# Altium schematic symbol library jlcpcb_2025_04_resistors_basic.schlib: 182 symbols (part 3 of 3)
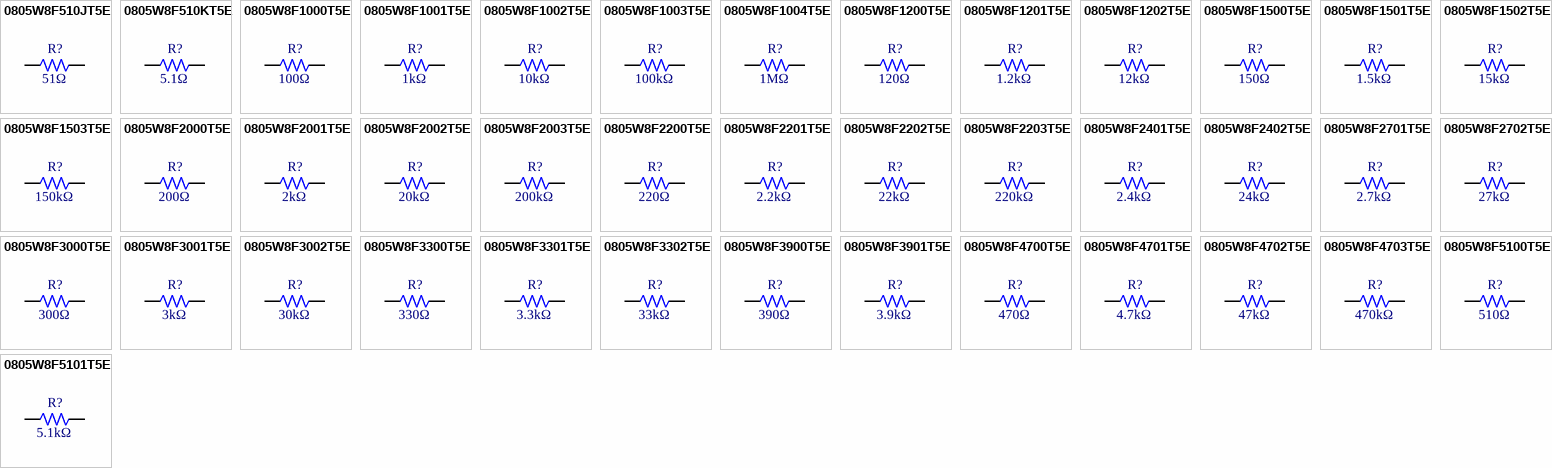
[diagram p6: symbols 0805W8F510JT5E to 0805W8F5101T5E]

## 0805W8F1002T5E
designator R?  Resistance: 10kΩ  (hidden comment: *)
Resistor, 10kΩ, ±1%, 125mW, 150V, ±100ppm/℃, -55℃~+155℃, SMD 0805; Manufacturer: Uniroyal; Manufacturer Part Number: 0805W8F1002T5E; Supplier 1: LCSC; Supplier Part Number 1: C17414; JLCPCB Part Number: C17414; Power Rating: 125mW; Category: Resistors; Package Size: 0805; JLCPCB Basic Part: Yes; Tolerance: ±1%; Voltage Rating: 150V; Temperature Coefficient: ±100ppm/℃; Temperature Rating: -55℃~+155℃; ComponentLink1Description: Datasheet; ComponentLink1URL: https://wmsc.lcsc.com/wmsc/upload/file/pdf/v2/lcsc/2206010216_UNI-ROYAL-Uniroyal-Elec-0805W8F1002T5E_C17414.pdf; ComponentLink2Description: JLCPCB Part URL; ComponentLink2URL: https://jlcpcb.com/partdetail/C17414
pins: 1, 2
1 alternate drawing of the same symbol

## 0805W8F1003T5E
designator R?  Resistance: 100kΩ  (hidden comment: *)
Resistor, 100kΩ, ±1%, 125mW, 150V, ±100ppm/℃, -55℃~+155℃, SMD 0805; Manufacturer: Uniroyal; Manufacturer Part Number: 0805W8F1003T5E; Supplier 1: LCSC; Supplier Part Number 1: C149504; JLCPCB Part Number: C149504; Power Rating: 125mW; Category: Resistors; Package Size: 0805; JLCPCB Basic Part: Yes; Tolerance: ±1%; Voltage Rating: 150V; Temperature Coefficient: ±100ppm/℃; Temperature Rating: -55℃~+155℃; ComponentLink1Description: Datasheet; ComponentLink1URL: https://wmsc.lcsc.com/wmsc/upload/file/pdf/v2/lcsc/2205312316_UNI-ROYAL-Uniroyal-Elec-0805W8F1003T5E_C149504.pdf; ComponentLink2Description: JLCPCB Part URL; ComponentLink2URL: https://jlcpcb.com/partdetail/C149504
pins: 1, 2
1 alternate drawing of the same symbol

## 0805W8F1004T5E
designator R?  Resistance: 1MΩ  (hidden comment: *)
Resistor, 1MΩ, ±1%, 125mW, 150V, ±100ppm/℃, -55℃~+155℃, SMD 0805; Manufacturer: Uniroyal; Manufacturer Part Number: 0805W8F1004T5E; Supplier 1: LCSC; Supplier Part Number 1: C17514; JLCPCB Part Number: C17514; Power Rating: 125mW; Category: Resistors; Package Size: 0805; JLCPCB Basic Part: Yes; Tolerance: ±1%; Voltage Rating: 150V; Temperature Coefficient: ±100ppm/℃; Temperature Rating: -55℃~+155℃; ComponentLink1Description: Datasheet; ComponentLink1URL: https://wmsc.lcsc.com/wmsc/upload/file/pdf/v2/lcsc/2206010200_UNI-ROYAL-Uniroyal-Elec-0805W8F1004T5E_C17514.pdf; ComponentLink2Description: JLCPCB Part URL; ComponentLink2URL: https://jlcpcb.com/partdetail/C17514
pins: 1, 2
1 alternate drawing of the same symbol

## 0805W8F1200T5E
designator R?  Resistance: 120Ω  (hidden comment: *)
Resistor, 120Ω, ±1%, 125mW, 150V, ±100ppm/℃, -55℃~+155℃, SMD 0805; Manufacturer: Uniroyal; Manufacturer Part Number: 0805W8F1200T5E; Supplier 1: LCSC; Supplier Part Number 1: C17437; JLCPCB Part Number: C17437; Power Rating: 125mW; Category: Resistors; Package Size: 0805; JLCPCB Basic Part: Yes; Tolerance: ±1%; Voltage Rating: 150V; Temperature Coefficient: ±100ppm/℃; Temperature Rating: -55℃~+155℃; ComponentLink1Description: Datasheet; ComponentLink1URL: https://wmsc.lcsc.com/wmsc/upload/file/pdf/v2/lcsc/2206010216_UNI-ROYAL-Uniroyal-Elec-0805W8F1200T5E_C17437.pdf; ComponentLink2Description: JLCPCB Part URL; ComponentLink2URL: https://jlcpcb.com/partdetail/C17437
pins: 1, 2
1 alternate drawing of the same symbol

## 0805W8F1201T5E
designator R?  Resistance: 1.2kΩ  (hidden comment: *)
Resistor, 1.2kΩ, ±1%, 125mW, 150V, ±100ppm/℃, -55℃~+155℃, SMD 0805; Manufacturer: Uniroyal; Manufacturer Part Number: 0805W8F1201T5E; Supplier 1: LCSC; Supplier Part Number 1: C17379; JLCPCB Part Number: C17379; Power Rating: 125mW; Category: Resistors; Package Size: 0805; JLCPCB Basic Part: Yes; Tolerance: ±1%; Voltage Rating: 150V; Temperature Coefficient: ±100ppm/℃; Temperature Rating: -55℃~+155℃; ComponentLink1Description: Datasheet; ComponentLink1URL: https://wmsc.lcsc.com/wmsc/upload/file/pdf/v2/lcsc/2206010216_UNI-ROYAL-Uniroyal-Elec-0805W8F1201T5E_C17379.pdf; ComponentLink2Description: JLCPCB Part URL; ComponentLink2URL: https://jlcpcb.com/partdetail/C17379
pins: 1, 2
1 alternate drawing of the same symbol

## 0805W8F1202T5E
designator R?  Resistance: 12kΩ  (hidden comment: *)
Resistor, 12kΩ, ±1%, 125mW, 150V, ±100ppm/℃, -55℃~+155℃, SMD 0805; Manufacturer: Uniroyal; Manufacturer Part Number: 0805W8F1202T5E; Supplier 1: LCSC; Supplier Part Number 1: C17444; JLCPCB Part Number: C17444; Power Rating: 125mW; Category: Resistors; Package Size: 0805; JLCPCB Basic Part: Yes; Tolerance: ±1%; Voltage Rating: 150V; Temperature Coefficient: ±100ppm/℃; Temperature Rating: -55℃~+155℃; ComponentLink1Description: Datasheet; ComponentLink1URL: https://wmsc.lcsc.com/wmsc/upload/file/pdf/v2/lcsc/2206010216_UNI-ROYAL-Uniroyal-Elec-0805W8F1202T5E_C17444.pdf; ComponentLink2Description: JLCPCB Part URL; ComponentLink2URL: https://jlcpcb.com/partdetail/C17444
pins: 1, 2
1 alternate drawing of the same symbol

## 0805W8F1500T5E
designator R?  Resistance: 150Ω  (hidden comment: *)
Resistor, 150Ω, ±1%, 125mW, 150V, ±100ppm/℃, -55℃~+155℃, SMD 0805; Manufacturer: Uniroyal; Manufacturer Part Number: 0805W8F1500T5E; Supplier 1: LCSC; Supplier Part Number 1: C17471; JLCPCB Part Number: C17471; Power Rating: 125mW; Category: Resistors; Package Size: 0805; JLCPCB Basic Part: Yes; Tolerance: ±1%; Voltage Rating: 150V; Temperature Coefficient: ±100ppm/℃; Temperature Rating: -55℃~+155℃; ComponentLink1Description: Datasheet; ComponentLink1URL: https://wmsc.lcsc.com/wmsc/upload/file/pdf/v2/lcsc/2206010216_UNI-ROYAL-Uniroyal-Elec-0805W8F1500T5E_C17471.pdf; ComponentLink2Description: JLCPCB Part URL; ComponentLink2URL: https://jlcpcb.com/partdetail/C17471
pins: 1, 2
1 alternate drawing of the same symbol

## 0805W8F1501T5E
designator R?  Resistance: 1.5kΩ  (hidden comment: *)
Resistor, 1.5kΩ, ±1%, 125mW, 150V, ±100ppm/℃, -55℃~+155℃, SMD 0805; Manufacturer: Uniroyal; Manufacturer Part Number: 0805W8F1501T5E; Supplier 1: LCSC; Supplier Part Number 1: C4310; JLCPCB Part Number: C4310; Power Rating: 125mW; Category: Resistors; Package Size: 0805; JLCPCB Basic Part: Yes; Tolerance: ±1%; Voltage Rating: 150V; Temperature Coefficient: ±100ppm/℃; Temperature Rating: -55℃~+155℃; ComponentLink1Description: Datasheet; ComponentLink1URL: https://wmsc.lcsc.com/wmsc/upload/file/pdf/v2/lcsc/2206010216_UNI-ROYAL-Uniroyal-Elec-0805W8F1501T5E_C4310.pdf; ComponentLink2Description: JLCPCB Part URL; ComponentLink2URL: https://jlcpcb.com/partdetail/C4310
pins: 1, 2
1 alternate drawing of the same symbol

## 0805W8F1502T5E
designator R?  Resistance: 15kΩ  (hidden comment: *)
Resistor, 15kΩ, ±1%, 125mW, 150V, ±100ppm/℃, -55℃~+155℃, SMD 0805; Manufacturer: Uniroyal; Manufacturer Part Number: 0805W8F1502T5E; Supplier 1: LCSC; Supplier Part Number 1: C17475; JLCPCB Part Number: C17475; Power Rating: 125mW; Category: Resistors; Package Size: 0805; JLCPCB Basic Part: Yes; Tolerance: ±1%; Voltage Rating: 150V; Temperature Coefficient: ±100ppm/℃; Temperature Rating: -55℃~+155℃; ComponentLink1Description: Datasheet; ComponentLink1URL: https://wmsc.lcsc.com/wmsc/upload/file/pdf/v2/lcsc/2206010216_UNI-ROYAL-Uniroyal-Elec-0805W8F1502T5E_C17475.pdf; ComponentLink2Description: JLCPCB Part URL; ComponentLink2URL: https://jlcpcb.com/partdetail/C17475
pins: 1, 2
1 alternate drawing of the same symbol

## 0805W8F1503T5E
designator R?  Resistance: 150kΩ  (hidden comment: *)
Resistor, 150kΩ, ±1%, 125mW, 150V, ±100ppm/℃, -55℃~+155℃, SMD 0805; Manufacturer: Uniroyal; Manufacturer Part Number: 0805W8F1503T5E; Supplier 1: LCSC; Supplier Part Number 1: C17470; JLCPCB Part Number: C17470; Power Rating: 125mW; Category: Resistors; Package Size: 0805; JLCPCB Basic Part: Yes; Tolerance: ±1%; Voltage Rating: 150V; Temperature Coefficient: ±100ppm/℃; Temperature Rating: -55℃~+155℃; ComponentLink1Description: Datasheet; ComponentLink1URL: https://wmsc.lcsc.com/wmsc/upload/file/pdf/v2/lcsc/2206010216_UNI-ROYAL-Uniroyal-Elec-0805W8F1503T5E_C17470.pdf; ComponentLink2Description: JLCPCB Part URL; ComponentLink2URL: https://jlcpcb.com/partdetail/C17470
pins: 1, 2
1 alternate drawing of the same symbol

## 0805W8F2000T5E
designator R?  Resistance: 200Ω  (hidden comment: *)
Resistor, 200Ω, ±1%, 125mW, 150V, ±100ppm/℃, -55℃~+155℃, SMD 0805; Manufacturer: Uniroyal; Manufacturer Part Number: 0805W8F2000T5E; Supplier 1: LCSC; Supplier Part Number 1: C17540; JLCPCB Part Number: C17540; Power Rating: 125mW; Category: Resistors; Package Size: 0805; JLCPCB Basic Part: Yes; Tolerance: ±1%; Voltage Rating: 150V; Temperature Coefficient: ±100ppm/℃; Temperature Rating: -55℃~+155℃; ComponentLink1Description: Datasheet; ComponentLink1URL: https://wmsc.lcsc.com/wmsc/upload/file/pdf/v2/lcsc/2206010200_UNI-ROYAL-Uniroyal-Elec-0805W8F2000T5E_C17540.pdf; ComponentLink2Description: JLCPCB Part URL; ComponentLink2URL: https://jlcpcb.com/partdetail/C17540
pins: 1, 2
1 alternate drawing of the same symbol

## 0805W8F2001T5E
designator R?  Resistance: 2kΩ  (hidden comment: *)
Resistor, 2kΩ, ±1%, 125mW, 150V, ±100ppm/℃, -55℃~+155℃, SMD 0805; Manufacturer: Uniroyal; Manufacturer Part Number: 0805W8F2001T5E; Supplier 1: LCSC; Supplier Part Number 1: C17604; JLCPCB Part Number: C17604; Power Rating: 125mW; Category: Resistors; Package Size: 0805; JLCPCB Basic Part: Yes; Tolerance: ±1%; Voltage Rating: 150V; Temperature Coefficient: ±100ppm/℃; Temperature Rating: -55℃~+155℃; ComponentLink1Description: Datasheet; ComponentLink1URL: https://wmsc.lcsc.com/wmsc/upload/file/pdf/v2/lcsc/2206010200_UNI-ROYAL-Uniroyal-Elec-0805W8F2001T5E_C17604.pdf; ComponentLink2Description: JLCPCB Part URL; ComponentLink2URL: https://jlcpcb.com/partdetail/C17604
pins: 1, 2
1 alternate drawing of the same symbol

## 0805W8F2002T5E
designator R?  Resistance: 20kΩ  (hidden comment: *)
Resistor, 20kΩ, ±1%, 125mW, 150V, ±100ppm/℃, -55℃~+155℃, SMD 0805; Manufacturer: Uniroyal; Manufacturer Part Number: 0805W8F2002T5E; Supplier 1: LCSC; Supplier Part Number 1: C4328; JLCPCB Part Number: C4328; Power Rating: 125mW; Category: Resistors; Package Size: 0805; JLCPCB Basic Part: Yes; Tolerance: ±1%; Voltage Rating: 150V; Temperature Coefficient: ±100ppm/℃; Temperature Rating: -55℃~+155℃; ComponentLink1Description: Datasheet; ComponentLink1URL: https://wmsc.lcsc.com/wmsc/upload/file/pdf/v2/lcsc/2206010216_UNI-ROYAL-Uniroyal-Elec-0805W8F2002T5E_C4328.pdf; ComponentLink2Description: JLCPCB Part URL; ComponentLink2URL: https://jlcpcb.com/partdetail/C4328
pins: 1, 2
1 alternate drawing of the same symbol

## 0805W8F2003T5E
designator R?  Resistance: 200kΩ  (hidden comment: *)
Resistor, 200kΩ, ±1%, 125mW, 150V, ±100ppm/℃, -55℃~+155℃, SMD 0805; Manufacturer: Uniroyal; Manufacturer Part Number: 0805W8F2003T5E; Supplier 1: LCSC; Supplier Part Number 1: C17539; JLCPCB Part Number: C17539; Power Rating: 125mW; Category: Resistors; Package Size: 0805; JLCPCB Basic Part: Yes; Tolerance: ±1%; Voltage Rating: 150V; Temperature Coefficient: ±100ppm/℃; Temperature Rating: -55℃~+155℃; ComponentLink1Description: Datasheet; ComponentLink1URL: https://wmsc.lcsc.com/wmsc/upload/file/pdf/v2/lcsc/2206010200_UNI-ROYAL-Uniroyal-Elec-0805W8F2003T5E_C17539.pdf; ComponentLink2Description: JLCPCB Part URL; ComponentLink2URL: https://jlcpcb.com/partdetail/C17539
pins: 1, 2
1 alternate drawing of the same symbol

## 0805W8F2200T5E
designator R?  Resistance: 220Ω  (hidden comment: *)
Resistor, 220Ω, ±1%, 125mW, 150V, ±100ppm/℃, -55℃~+155℃, SMD 0805; Manufacturer: Uniroyal; Manufacturer Part Number: 0805W8F2200T5E; Supplier 1: LCSC; Supplier Part Number 1: C17557; JLCPCB Part Number: C17557; Power Rating: 125mW; Category: Resistors; Package Size: 0805; JLCPCB Basic Part: Yes; Tolerance: ±1%; Voltage Rating: 150V; Temperature Coefficient: ±100ppm/℃; Temperature Rating: -55℃~+155℃; ComponentLink1Description: Datasheet; ComponentLink1URL: https://wmsc.lcsc.com/wmsc/upload/file/pdf/v2/lcsc/2206010200_UNI-ROYAL-Uniroyal-Elec-0805W8F2200T5E_C17557.pdf; ComponentLink2Description: JLCPCB Part URL; ComponentLink2URL: https://jlcpcb.com/partdetail/C17557
pins: 1, 2
1 alternate drawing of the same symbol

## 0805W8F2201T5E
designator R?  Resistance: 2.2kΩ  (hidden comment: *)
Resistor, 2.2kΩ, ±1%, 125mW, 150V, ±100ppm/℃, -55℃~+155℃, SMD 0805; Manufacturer: Uniroyal; Manufacturer Part Number: 0805W8F2201T5E; Supplier 1: LCSC; Supplier Part Number 1: C17520; JLCPCB Part Number: C17520; Power Rating: 125mW; Category: Resistors; Package Size: 0805; JLCPCB Basic Part: Yes; Tolerance: ±1%; Voltage Rating: 150V; Temperature Coefficient: ±100ppm/℃; Temperature Rating: -55℃~+155℃; ComponentLink1Description: Datasheet; ComponentLink1URL: https://wmsc.lcsc.com/wmsc/upload/file/pdf/v2/lcsc/2206010200_UNI-ROYAL-Uniroyal-Elec-0805W8F2201T5E_C17520.pdf; ComponentLink2Description: JLCPCB Part URL; ComponentLink2URL: https://jlcpcb.com/partdetail/C17520
pins: 1, 2
1 alternate drawing of the same symbol

## 0805W8F2202T5E
designator R?  Resistance: 22kΩ  (hidden comment: *)
Resistor, 22kΩ, ±1%, 125mW, 150V, ±100ppm/℃, -55℃~+155℃, SMD 0805; Manufacturer: Uniroyal; Manufacturer Part Number: 0805W8F2202T5E; Supplier 1: LCSC; Supplier Part Number 1: C17560; JLCPCB Part Number: C17560; Power Rating: 125mW; Category: Resistors; Package Size: 0805; JLCPCB Basic Part: Yes; Tolerance: ±1%; Voltage Rating: 150V; Temperature Coefficient: ±100ppm/℃; Temperature Rating: -55℃~+155℃; ComponentLink1Description: Datasheet; ComponentLink1URL: https://wmsc.lcsc.com/wmsc/upload/file/pdf/v2/lcsc/2206010200_UNI-ROYAL-Uniroyal-Elec-0805W8F2202T5E_C17560.pdf; ComponentLink2Description: JLCPCB Part URL; ComponentLink2URL: https://jlcpcb.com/partdetail/C17560
pins: 1, 2
1 alternate drawing of the same symbol

## 0805W8F2203T5E
designator R?  Resistance: 220kΩ  (hidden comment: *)
Resistor, 220kΩ, ±1%, 125mW, 150V, ±100ppm/℃, -55℃~+155℃, SMD 0805; Manufacturer: Uniroyal; Manufacturer Part Number: 0805W8F2203T5E; Supplier 1: LCSC; Supplier Part Number 1: C17556; JLCPCB Part Number: C17556; Power Rating: 125mW; Category: Resistors; Package Size: 0805; JLCPCB Basic Part: Yes; Tolerance: ±1%; Voltage Rating: 150V; Temperature Coefficient: ±100ppm/℃; Temperature Rating: -55℃~+155℃; ComponentLink1Description: Datasheet; ComponentLink1URL: https://wmsc.lcsc.com/wmsc/upload/file/pdf/v2/lcsc/2206010200_UNI-ROYAL-Uniroyal-Elec-0805W8F2203T5E_C17556.pdf; ComponentLink2Description: JLCPCB Part URL; ComponentLink2URL: https://jlcpcb.com/partdetail/C17556
pins: 1, 2
1 alternate drawing of the same symbol

## 0805W8F2401T5E
designator R?  Resistance: 2.4kΩ  (hidden comment: *)
Resistor, 2.4kΩ, ±1%, 125mW, 150V, ±100ppm/℃, -55℃~+155℃, SMD 0805; Manufacturer: Uniroyal; Manufacturer Part Number: 0805W8F2401T5E; Supplier 1: LCSC; Supplier Part Number 1: C17526; JLCPCB Part Number: C17526; Power Rating: 125mW; Category: Resistors; Package Size: 0805; JLCPCB Basic Part: Yes; Tolerance: ±1%; Voltage Rating: 150V; Temperature Coefficient: ±100ppm/℃; Temperature Rating: -55℃~+155℃; ComponentLink1Description: Datasheet; ComponentLink1URL: https://wmsc.lcsc.com/wmsc/upload/file/pdf/v2/lcsc/2206010200_UNI-ROYAL-Uniroyal-Elec-0805W8F2401T5E_C17526.pdf; ComponentLink2Description: JLCPCB Part URL; ComponentLink2URL: https://jlcpcb.com/partdetail/C17526
pins: 1, 2
1 alternate drawing of the same symbol

## 0805W8F2402T5E
designator R?  Resistance: 24kΩ  (hidden comment: *)
Resistor, 24kΩ, ±1%, 125mW, 150V, ±100ppm/℃, -55℃~+155℃, SMD 0805; Manufacturer: Uniroyal; Manufacturer Part Number: 0805W8F2402T5E; Supplier 1: LCSC; Supplier Part Number 1: C17575; JLCPCB Part Number: C17575; Power Rating: 125mW; Category: Resistors; Package Size: 0805; JLCPCB Basic Part: Yes; Tolerance: ±1%; Voltage Rating: 150V; Temperature Coefficient: ±100ppm/℃; Temperature Rating: -55℃~+155℃; ComponentLink1Description: Datasheet; ComponentLink1URL: https://wmsc.lcsc.com/wmsc/upload/file/pdf/v2/lcsc/2206010200_UNI-ROYAL-Uniroyal-Elec-0805W8F2402T5E_C17575.pdf; ComponentLink2Description: JLCPCB Part URL; ComponentLink2URL: https://jlcpcb.com/partdetail/C17575
pins: 1, 2
1 alternate drawing of the same symbol

## 0805W8F2701T5E
designator R?  Resistance: 2.7kΩ  (hidden comment: *)
Resistor, 2.7kΩ, ±1%, 125mW, 150V, ±100ppm/℃, -55℃~+155℃, SMD 0805; Manufacturer: Uniroyal; Manufacturer Part Number: 0805W8F2701T5E; Supplier 1: LCSC; Supplier Part Number 1: C17530; JLCPCB Part Number: C17530; Power Rating: 125mW; Category: Resistors; Package Size: 0805; JLCPCB Basic Part: Yes; Tolerance: ±1%; Voltage Rating: 150V; Temperature Coefficient: ±100ppm/℃; Temperature Rating: -55℃~+155℃; ComponentLink1Description: Datasheet; ComponentLink1URL: https://wmsc.lcsc.com/wmsc/upload/file/pdf/v2/lcsc/2206010200_UNI-ROYAL-Uniroyal-Elec-0805W8F2701T5E_C17530.pdf; ComponentLink2Description: JLCPCB Part URL; ComponentLink2URL: https://jlcpcb.com/partdetail/C17530
pins: 1, 2
1 alternate drawing of the same symbol

## 0805W8F2702T5E
designator R?  Resistance: 27kΩ  (hidden comment: *)
Resistor, 27kΩ, ±1%, 125mW, 150V, ±100ppm/℃, -55℃~+155℃, SMD 0805; Manufacturer: Uniroyal; Manufacturer Part Number: 0805W8F2702T5E; Supplier 1: LCSC; Supplier Part Number 1: C17593; JLCPCB Part Number: C17593; Power Rating: 125mW; Category: Resistors; Package Size: 0805; JLCPCB Basic Part: Yes; Tolerance: ±1%; Voltage Rating: 150V; Temperature Coefficient: ±100ppm/℃; Temperature Rating: -55℃~+155℃; ComponentLink1Description: Datasheet; ComponentLink1URL: https://wmsc.lcsc.com/wmsc/upload/file/pdf/v2/lcsc/2206010200_UNI-ROYAL-Uniroyal-Elec-0805W8F2702T5E_C17593.pdf; ComponentLink2Description: JLCPCB Part URL; ComponentLink2URL: https://jlcpcb.com/partdetail/C17593
pins: 1, 2
1 alternate drawing of the same symbol

## 0805W8F3000T5E
designator R?  Resistance: 300Ω  (hidden comment: *)
Resistor, 300Ω, ±1%, 125mW, 150V, ±100ppm/℃, -55℃~+155℃, SMD 0805; Manufacturer: Uniroyal; Manufacturer Part Number: 0805W8F3000T5E; Supplier 1: LCSC; Supplier Part Number 1: C17617; JLCPCB Part Number: C17617; Power Rating: 125mW; Category: Resistors; Package Size: 0805; JLCPCB Basic Part: Yes; Tolerance: ±1%; Voltage Rating: 150V; Temperature Coefficient: ±100ppm/℃; Temperature Rating: -55℃~+155℃; ComponentLink1Description: Datasheet; ComponentLink1URL: https://wmsc.lcsc.com/wmsc/upload/file/pdf/v2/lcsc/2206010200_UNI-ROYAL-Uniroyal-Elec-0805W8F3000T5E_C17617.pdf; ComponentLink2Description: JLCPCB Part URL; ComponentLink2URL: https://jlcpcb.com/partdetail/C17617
pins: 1, 2
1 alternate drawing of the same symbol

## 0805W8F3001T5E
designator R?  Resistance: 3kΩ  (hidden comment: *)
Resistor, 3kΩ, ±1%, 125mW, 150V, ±100ppm/℃, -55℃~+155℃, SMD 0805; Manufacturer: Uniroyal; Manufacturer Part Number: 0805W8F3001T5E; Supplier 1: LCSC; Supplier Part Number 1: C17661; JLCPCB Part Number: C17661; Power Rating: 125mW; Category: Resistors; Package Size: 0805; JLCPCB Basic Part: Yes; Tolerance: ±1%; Voltage Rating: 150V; Temperature Coefficient: ±100ppm/℃; Temperature Rating: -55℃~+155℃; ComponentLink1Description: Datasheet; ComponentLink1URL: https://wmsc.lcsc.com/wmsc/upload/file/pdf/v2/lcsc/2206010200_UNI-ROYAL-Uniroyal-Elec-0805W8F3001T5E_C17661.pdf; ComponentLink2Description: JLCPCB Part URL; ComponentLink2URL: https://jlcpcb.com/partdetail/C17661
pins: 1, 2
1 alternate drawing of the same symbol

## 0805W8F3002T5E
designator R?  Resistance: 30kΩ  (hidden comment: *)
Resistor, 30kΩ, ±1%, 125mW, 150V, ±100ppm/℃, -55℃~+155℃, SMD 0805; Manufacturer: Uniroyal; Manufacturer Part Number: 0805W8F3002T5E; Supplier 1: LCSC; Supplier Part Number 1: C17621; JLCPCB Part Number: C17621; Power Rating: 125mW; Category: Resistors; Package Size: 0805; JLCPCB Basic Part: Yes; Tolerance: ±1%; Voltage Rating: 150V; Temperature Coefficient: ±100ppm/℃; Temperature Rating: -55℃~+155℃; ComponentLink1Description: Datasheet; ComponentLink1URL: https://wmsc.lcsc.com/wmsc/upload/file/pdf/v2/lcsc/2205311830_UNI-ROYAL-Uniroyal-Elec-0805W8F3002T5E_C17621.pdf; ComponentLink2Description: JLCPCB Part URL; ComponentLink2URL: https://jlcpcb.com/partdetail/C17621
pins: 1, 2
1 alternate drawing of the same symbol

## 0805W8F3300T5E
designator R?  Resistance: 330Ω  (hidden comment: *)
Resistor, 330Ω, ±1%, 125mW, 150V, ±100ppm/℃, -55℃~+155℃, SMD 0805; Manufacturer: Uniroyal; Manufacturer Part Number: 0805W8F3300T5E; Supplier 1: LCSC; Supplier Part Number 1: C17630; JLCPCB Part Number: C17630; Power Rating: 125mW; Category: Resistors; Package Size: 0805; JLCPCB Basic Part: Yes; Tolerance: ±1%; Voltage Rating: 150V; Temperature Coefficient: ±100ppm/℃; Temperature Rating: -55℃~+155℃; ComponentLink1Description: Datasheet; ComponentLink1URL: https://wmsc.lcsc.com/wmsc/upload/file/pdf/v2/lcsc/2205311830_UNI-ROYAL-Uniroyal-Elec-0805W8F3300T5E_C17630.pdf; ComponentLink2Description: JLCPCB Part URL; ComponentLink2URL: https://jlcpcb.com/partdetail/C17630
pins: 1, 2
1 alternate drawing of the same symbol

## 0805W8F3301T5E
designator R?  Resistance: 3.3kΩ  (hidden comment: *)
Resistor, 3.3kΩ, ±1%, 125mW, 150V, ±100ppm/℃, -55℃~+155℃, SMD 0805; Manufacturer: Uniroyal; Manufacturer Part Number: 0805W8F3301T5E; Supplier 1: LCSC; Supplier Part Number 1: C26010; JLCPCB Part Number: C26010; Power Rating: 125mW; Category: Resistors; Package Size: 0805; JLCPCB Basic Part: Yes; Tolerance: ±1%; Voltage Rating: 150V; Temperature Coefficient: ±100ppm/℃; Temperature Rating: -55℃~+155℃; ComponentLink1Description: Datasheet; ComponentLink1URL: https://wmsc.lcsc.com/wmsc/upload/file/pdf/v2/lcsc/2206010045_UNI-ROYAL-Uniroyal-Elec-0805W8F3301T5E_C26010.pdf; ComponentLink2Description: JLCPCB Part URL; ComponentLink2URL: https://jlcpcb.com/partdetail/C26010
pins: 1, 2
1 alternate drawing of the same symbol

## 0805W8F3302T5E
designator R?  Resistance: 33kΩ  (hidden comment: *)
Resistor, 33kΩ, ±1%, 125mW, 150V, ±100ppm/℃, -55℃~+155℃, SMD 0805; Manufacturer: Uniroyal; Manufacturer Part Number: 0805W8F3302T5E; Supplier 1: LCSC; Supplier Part Number 1: C17633; JLCPCB Part Number: C17633; Power Rating: 125mW; Category: Resistors; Package Size: 0805; JLCPCB Basic Part: Yes; Tolerance: ±1%; Voltage Rating: 150V; Temperature Coefficient: ±100ppm/℃; Temperature Rating: -55℃~+155℃; ComponentLink1Description: Datasheet; ComponentLink1URL: https://wmsc.lcsc.com/wmsc/upload/file/pdf/v2/lcsc/2205311830_UNI-ROYAL-Uniroyal-Elec-0805W8F3302T5E_C17633.pdf; ComponentLink2Description: JLCPCB Part URL; ComponentLink2URL: https://jlcpcb.com/partdetail/C17633
pins: 1, 2
1 alternate drawing of the same symbol

## 0805W8F3900T5E
designator R?  Resistance: 390Ω  (hidden comment: *)
Resistor, 390Ω, ±1%, 125mW, 150V, ±100ppm/℃, -55℃~+155℃, SMD 0805; Manufacturer: Uniroyal; Manufacturer Part Number: 0805W8F3900T5E; Supplier 1: LCSC; Supplier Part Number 1: C17655; JLCPCB Part Number: C17655; Power Rating: 125mW; Category: Resistors; Package Size: 0805; JLCPCB Basic Part: Yes; Tolerance: ±1%; Voltage Rating: 150V; Temperature Coefficient: ±100ppm/℃; Temperature Rating: -55℃~+155℃; ComponentLink1Description: Datasheet; ComponentLink1URL: https://wmsc.lcsc.com/wmsc/upload/file/pdf/v2/lcsc/2206010200_UNI-ROYAL-Uniroyal-Elec-0805W8F3900T5E_C17655.pdf; ComponentLink2Description: JLCPCB Part URL; ComponentLink2URL: https://jlcpcb.com/partdetail/C17655
pins: 1, 2
1 alternate drawing of the same symbol

## 0805W8F3901T5E
designator R?  Resistance: 3.9kΩ  (hidden comment: *)
Resistor, 3.9kΩ, ±1%, 125mW, 150V, ±100ppm/℃, -55℃~+155℃, SMD 0805; Manufacturer: Uniroyal; Manufacturer Part Number: 0805W8F3901T5E; Supplier 1: LCSC; Supplier Part Number 1: C17614; JLCPCB Part Number: C17614; Power Rating: 125mW; Category: Resistors; Package Size: 0805; JLCPCB Basic Part: Yes; Tolerance: ±1%; Voltage Rating: 150V; Temperature Coefficient: ±100ppm/℃; Temperature Rating: -55℃~+155℃; ComponentLink1Description: Datasheet; ComponentLink1URL: https://wmsc.lcsc.com/wmsc/upload/file/pdf/v2/lcsc/2206010200_UNI-ROYAL-Uniroyal-Elec-0805W8F3901T5E_C17614.pdf; ComponentLink2Description: JLCPCB Part URL; ComponentLink2URL: https://jlcpcb.com/partdetail/C17614
pins: 1, 2
1 alternate drawing of the same symbol

## 0805W8F4700T5E
designator R?  Resistance: 470Ω  (hidden comment: *)
Resistor, 470Ω, ±1%, 125mW, 150V, ±100ppm/℃, -55℃~+155℃, SMD 0805; Manufacturer: Uniroyal; Manufacturer Part Number: 0805W8F4700T5E; Supplier 1: LCSC; Supplier Part Number 1: C17710; JLCPCB Part Number: C17710; Power Rating: 125mW; Category: Resistors; Package Size: 0805; JLCPCB Basic Part: Yes; Tolerance: ±1%; Voltage Rating: 150V; Temperature Coefficient: ±100ppm/℃; Temperature Rating: -55℃~+155℃; ComponentLink1Description: Datasheet; ComponentLink1URL: https://wmsc.lcsc.com/wmsc/upload/file/pdf/v2/lcsc/2206010200_UNI-ROYAL-Uniroyal-Elec-0805W8F4700T5E_C17710.pdf; ComponentLink2Description: JLCPCB Part URL; ComponentLink2URL: https://jlcpcb.com/partdetail/C17710
pins: 1, 2
1 alternate drawing of the same symbol

## 0805W8F4701T5E
designator R?  Resistance: 4.7kΩ  (hidden comment: *)
Resistor, 4.7kΩ, ±1%, 125mW, 150V, ±100ppm/℃, -55℃~+155℃, SMD 0805; Manufacturer: Uniroyal; Manufacturer Part Number: 0805W8F4701T5E; Supplier 1: LCSC; Supplier Part Number 1: C17673; JLCPCB Part Number: C17673; Power Rating: 125mW; Category: Resistors; Package Size: 0805; JLCPCB Basic Part: Yes; Tolerance: ±1%; Voltage Rating: 150V; Temperature Coefficient: ±100ppm/℃; Temperature Rating: -55℃~+155℃; ComponentLink1Description: Datasheet; ComponentLink1URL: https://wmsc.lcsc.com/wmsc/upload/file/pdf/v2/lcsc/2206010200_UNI-ROYAL-Uniroyal-Elec-0805W8F4701T5E_C17673.pdf; ComponentLink2Description: JLCPCB Part URL; ComponentLink2URL: https://jlcpcb.com/partdetail/C17673
pins: 1, 2
1 alternate drawing of the same symbol

## 0805W8F4702T5E
designator R?  Resistance: 47kΩ  (hidden comment: *)
Resistor, 47kΩ, ±1%, 125mW, 150V, ±100ppm/℃, -55℃~+155℃, SMD 0805; Manufacturer: Uniroyal; Manufacturer Part Number: 0805W8F4702T5E; Supplier 1: LCSC; Supplier Part Number 1: C17713; JLCPCB Part Number: C17713; Power Rating: 125mW; Category: Resistors; Package Size: 0805; JLCPCB Basic Part: Yes; Tolerance: ±1%; Voltage Rating: 150V; Temperature Coefficient: ±100ppm/℃; Temperature Rating: -55℃~+155℃; ComponentLink1Description: Datasheet; ComponentLink1URL: https://wmsc.lcsc.com/wmsc/upload/file/pdf/v2/lcsc/2206010200_UNI-ROYAL-Uniroyal-Elec-0805W8F4702T5E_C17713.pdf; ComponentLink2Description: JLCPCB Part URL; ComponentLink2URL: https://jlcpcb.com/partdetail/C17713
pins: 1, 2
1 alternate drawing of the same symbol

## 0805W8F4703T5E
designator R?  Resistance: 470kΩ  (hidden comment: *)
Resistor, 470kΩ, ±1%, 125mW, 150V, ±100ppm/℃, -55℃~+155℃, SMD 0805; Manufacturer: Uniroyal; Manufacturer Part Number: 0805W8F4703T5E; Supplier 1: LCSC; Supplier Part Number 1: C17709; JLCPCB Part Number: C17709; Power Rating: 125mW; Category: Resistors; Package Size: 0805; JLCPCB Basic Part: Yes; Tolerance: ±1%; Voltage Rating: 150V; Temperature Coefficient: ±100ppm/℃; Temperature Rating: -55℃~+155℃; ComponentLink1Description: Datasheet; ComponentLink1URL: https://wmsc.lcsc.com/wmsc/upload/file/pdf/v2/lcsc/2206010200_UNI-ROYAL-Uniroyal-Elec-0805W8F4703T5E_C17709.pdf; ComponentLink2Description: JLCPCB Part URL; ComponentLink2URL: https://jlcpcb.com/partdetail/C17709
pins: 1, 2
1 alternate drawing of the same symbol

## 0805W8F5100T5E
designator R?  Resistance: 510Ω  (hidden comment: *)
Resistor, 510Ω, ±1%, 125mW, 150V, ±100ppm/℃, -55℃~+155℃, SMD 0805; Manufacturer: Uniroyal; Manufacturer Part Number: 0805W8F5100T5E; Supplier 1: LCSC; Supplier Part Number 1: C17734; JLCPCB Part Number: C17734; Power Rating: 125mW; Category: Resistors; Package Size: 0805; JLCPCB Basic Part: Yes; Tolerance: ±1%; Voltage Rating: 150V; Temperature Coefficient: ±100ppm/℃; Temperature Rating: -55℃~+155℃; ComponentLink1Description: Datasheet; ComponentLink1URL: https://wmsc.lcsc.com/wmsc/upload/file/pdf/v2/lcsc/2206010200_UNI-ROYAL-Uniroyal-Elec-0805W8F5100T5E_C17734.pdf; ComponentLink2Description: JLCPCB Part URL; ComponentLink2URL: https://jlcpcb.com/partdetail/C17734
pins: 1, 2
1 alternate drawing of the same symbol

## 0805W8F5101T5E
designator R?  Resistance: 5.1kΩ  (hidden comment: *)
Resistor, 5.1kΩ, ±1%, 125mW, 150V, ±100ppm/℃, -55℃~+155℃, SMD 0805; Manufacturer: Uniroyal; Manufacturer Part Number: 0805W8F5101T5E; Supplier 1: LCSC; Supplier Part Number 1: C27834; JLCPCB Part Number: C27834; Power Rating: 125mW; Category: Resistors; Package Size: 0805; JLCPCB Basic Part: Yes; Tolerance: ±1%; Voltage Rating: 150V; Temperature Coefficient: ±100ppm/℃; Temperature Rating: -55℃~+155℃; ComponentLink1Description: Datasheet; ComponentLink1URL: https://wmsc.lcsc.com/wmsc/upload/file/pdf/v2/lcsc/2206010030_UNI-ROYAL-Uniroyal-Elec-0805W8F5101T5E_C27834.pdf; ComponentLink2Description: JLCPCB Part URL; ComponentLink2URL: https://jlcpcb.com/partdetail/C27834
pins: 1, 2
1 alternate drawing of the same symbol

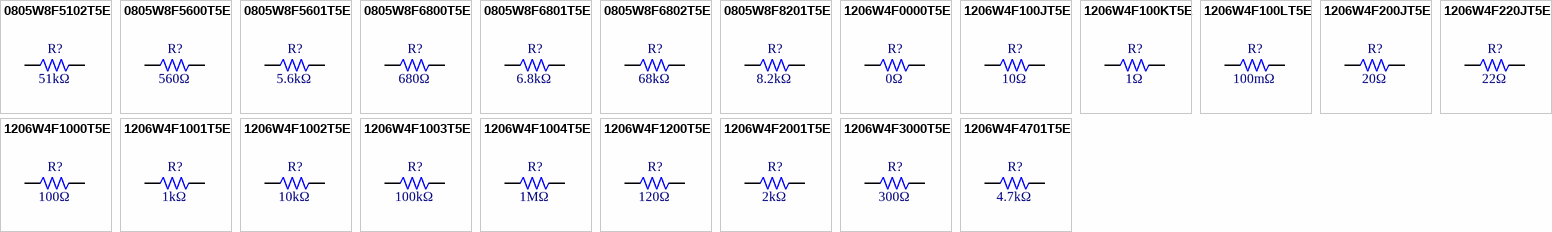
[diagram p4: symbols 0805W8F5102T5E to 1206W4F4701T5E]

## 0805W8F5102T5E
designator R?  Resistance: 51kΩ  (hidden comment: *)
Resistor, 51kΩ, ±1%, 125mW, 150V, ±100ppm/℃, -55℃~+155℃, SMD 0805; Manufacturer: Uniroyal; Manufacturer Part Number: 0805W8F5102T5E; Supplier 1: LCSC; Supplier Part Number 1: C17737; JLCPCB Part Number: C17737; Power Rating: 125mW; Category: Resistors; Package Size: 0805; JLCPCB Basic Part: Yes; Tolerance: ±1%; Voltage Rating: 150V; Temperature Coefficient: ±100ppm/℃; Temperature Rating: -55℃~+155℃; ComponentLink1Description: Datasheet; ComponentLink1URL: https://wmsc.lcsc.com/wmsc/upload/file/pdf/v2/lcsc/2206010200_UNI-ROYAL-Uniroyal-Elec-0805W8F5102T5E_C17737.pdf; ComponentLink2Description: JLCPCB Part URL; ComponentLink2URL: https://jlcpcb.com/partdetail/C17737
pins: 1, 2
1 alternate drawing of the same symbol

## 0805W8F5600T5E
designator R?  Resistance: 560Ω  (hidden comment: *)
Resistor, 560Ω, ±1%, 125mW, 150V, ±100ppm/℃, -55℃~+155℃, SMD 0805; Manufacturer: Uniroyal; Manufacturer Part Number: 0805W8F5600T5E; Supplier 1: LCSC; Supplier Part Number 1: C28636; JLCPCB Part Number: C28636; Power Rating: 125mW; Category: Resistors; Package Size: 0805; JLCPCB Basic Part: Yes; Tolerance: ±1%; Voltage Rating: 150V; Temperature Coefficient: ±100ppm/℃; Temperature Rating: -55℃~+155℃; ComponentLink1Description: Datasheet; ComponentLink1URL: https://wmsc.lcsc.com/wmsc/upload/file/pdf/v2/lcsc/2206010030_UNI-ROYAL-Uniroyal-Elec-0805W8F5600T5E_C28636.pdf; ComponentLink2Description: JLCPCB Part URL; ComponentLink2URL: https://jlcpcb.com/partdetail/C28636
pins: 1, 2
1 alternate drawing of the same symbol

## 0805W8F5601T5E
designator R?  Resistance: 5.6kΩ  (hidden comment: *)
Resistor, 5.6kΩ, ±1%, 125mW, 150V, ±100ppm/℃, -55℃~+155℃, SMD 0805; Manufacturer: Uniroyal; Manufacturer Part Number: 0805W8F5601T5E; Supplier 1: LCSC; Supplier Part Number 1: C4382; JLCPCB Part Number: C4382; Power Rating: 125mW; Category: Resistors; Package Size: 0805; JLCPCB Basic Part: Yes; Tolerance: ±1%; Voltage Rating: 150V; Temperature Coefficient: ±100ppm/℃; Temperature Rating: -55℃~+155℃; ComponentLink1Description: Datasheet; ComponentLink1URL: https://wmsc.lcsc.com/wmsc/upload/file/pdf/v2/lcsc/2206010216_UNI-ROYAL-Uniroyal-Elec-0805W8F5601T5E_C4382.pdf; ComponentLink2Description: JLCPCB Part URL; ComponentLink2URL: https://jlcpcb.com/partdetail/C4382
pins: 1, 2
1 alternate drawing of the same symbol

## 0805W8F6800T5E
designator R?  Resistance: 680Ω  (hidden comment: *)
Resistor, 680Ω, ±1%, 125mW, 150V, ±100ppm/℃, -55℃~+155℃, SMD 0805; Manufacturer: Uniroyal; Manufacturer Part Number: 0805W8F6800T5E; Supplier 1: LCSC; Supplier Part Number 1: C17798; JLCPCB Part Number: C17798; Power Rating: 125mW; Category: Resistors; Package Size: 0805; JLCPCB Basic Part: Yes; Tolerance: ±1%; Voltage Rating: 150V; Temperature Coefficient: ±100ppm/℃; Temperature Rating: -55℃~+155℃; ComponentLink1Description: Datasheet; ComponentLink1URL: https://wmsc.lcsc.com/wmsc/upload/file/pdf/v2/lcsc/2205311830_UNI-ROYAL-Uniroyal-Elec-0805W8F6800T5E_C17798.pdf; ComponentLink2Description: JLCPCB Part URL; ComponentLink2URL: https://jlcpcb.com/partdetail/C17798
pins: 1, 2
1 alternate drawing of the same symbol

## 0805W8F6801T5E
designator R?  Resistance: 6.8kΩ  (hidden comment: *)
Resistor, 6.8kΩ, ±1%, 125mW, 150V, ±100ppm/℃, -55℃~+155℃, SMD 0805; Manufacturer: Uniroyal; Manufacturer Part Number: 0805W8F6801T5E; Supplier 1: LCSC; Supplier Part Number 1: C17772; JLCPCB Part Number: C17772; Power Rating: 125mW; Category: Resistors; Package Size: 0805; JLCPCB Basic Part: Yes; Tolerance: ±1%; Voltage Rating: 150V; Temperature Coefficient: ±100ppm/℃; Temperature Rating: -55℃~+155℃; ComponentLink1Description: Datasheet; ComponentLink1URL: https://wmsc.lcsc.com/wmsc/upload/file/pdf/v2/lcsc/2205311830_UNI-ROYAL-Uniroyal-Elec-0805W8F6801T5E_C17772.pdf; ComponentLink2Description: JLCPCB Part URL; ComponentLink2URL: https://jlcpcb.com/partdetail/C17772
pins: 1, 2
1 alternate drawing of the same symbol

## 0805W8F6802T5E
designator R?  Resistance: 68kΩ  (hidden comment: *)
Resistor, 68kΩ, ±1%, 125mW, 150V, ±100ppm/℃, -55℃~+155℃, SMD 0805; Manufacturer: Uniroyal; Manufacturer Part Number: 0805W8F6802T5E; Supplier 1: LCSC; Supplier Part Number 1: C17801; JLCPCB Part Number: C17801; Power Rating: 125mW; Category: Resistors; Package Size: 0805; JLCPCB Basic Part: Yes; Tolerance: ±1%; Voltage Rating: 150V; Temperature Coefficient: ±100ppm/℃; Temperature Rating: -55℃~+155℃; ComponentLink1Description: Datasheet; ComponentLink1URL: https://wmsc.lcsc.com/wmsc/upload/file/pdf/v2/lcsc/2205311830_UNI-ROYAL-Uniroyal-Elec-0805W8F6802T5E_C17801.pdf; ComponentLink2Description: JLCPCB Part URL; ComponentLink2URL: https://jlcpcb.com/partdetail/C17801
pins: 1, 2
1 alternate drawing of the same symbol

## 0805W8F8201T5E
designator R?  Resistance: 8.2kΩ  (hidden comment: *)
Resistor, 8.2kΩ, ±1%, 125mW, 150V, ±100ppm/℃, -55℃~+155℃, SMD 0805; Manufacturer: Uniroyal; Manufacturer Part Number: 0805W8F8201T5E; Supplier 1: LCSC; Supplier Part Number 1: C17828; JLCPCB Part Number: C17828; Power Rating: 125mW; Category: Resistors; Package Size: 0805; JLCPCB Basic Part: Yes; Tolerance: ±1%; Voltage Rating: 150V; Temperature Coefficient: ±100ppm/℃; Temperature Rating: -55℃~+155℃; ComponentLink1Description: Datasheet; ComponentLink1URL: https://wmsc.lcsc.com/wmsc/upload/file/pdf/v2/lcsc/2205311830_UNI-ROYAL-Uniroyal-Elec-0805W8F8201T5E_C17828.pdf; ComponentLink2Description: JLCPCB Part URL; ComponentLink2URL: https://jlcpcb.com/partdetail/C17828
pins: 1, 2
1 alternate drawing of the same symbol

## 1206W4F0000T5E
designator R?  Resistance: 0Ω  (hidden comment: *)
Resistor, 0Ω, ±1%, 250mW, 200V, ±800ppm/℃, -55℃~+155℃, SMD 1206; Manufacturer: Uniroyal; Manufacturer Part Number: 1206W4F0000T5E; Supplier 1: LCSC; Supplier Part Number 1: C17888; JLCPCB Part Number: C17888; Power Rating: 250mW; Category: Resistors; Package Size: 1206; JLCPCB Basic Part: Yes; Tolerance: ±1%; Voltage Rating: 200V; Temperature Coefficient: ±800ppm/℃; Temperature Rating: -55℃~+155℃; ComponentLink1Description: Datasheet; ComponentLink1URL: https://wmsc.lcsc.com/wmsc/upload/file/pdf/v2/lcsc/2206010200_UNI-ROYAL-Uniroyal-Elec-1206W4F0000T5E_C17888.pdf; ComponentLink2Description: JLCPCB Part URL; ComponentLink2URL: https://jlcpcb.com/partdetail/C17888
pins: 1, 2
1 alternate drawing of the same symbol

## 1206W4F100JT5E
designator R?  Resistance: 10Ω  (hidden comment: *)
Resistor, 10Ω, ±1%, 250mW, 200V, ±400ppm/℃, -55℃~+155℃, SMD 1206; Manufacturer: Uniroyal; Manufacturer Part Number: 1206W4F100JT5E; Supplier 1: LCSC; Supplier Part Number 1: C17903; JLCPCB Part Number: C17903; Power Rating: 250mW; Category: Resistors; Package Size: 1206; JLCPCB Basic Part: Yes; Tolerance: ±1%; Voltage Rating: 200V; Temperature Coefficient: ±400ppm/℃; Temperature Rating: -55℃~+155℃; ComponentLink1Description: Datasheet; ComponentLink1URL: https://wmsc.lcsc.com/wmsc/upload/file/pdf/v2/lcsc/2206010145_UNI-ROYAL-Uniroyal-Elec-1206W4F100JT5E_C17903.pdf; ComponentLink2Description: JLCPCB Part URL; ComponentLink2URL: https://jlcpcb.com/partdetail/C17903
pins: 1, 2
1 alternate drawing of the same symbol

## 1206W4F100KT5E
designator R?  Resistance: 1Ω  (hidden comment: *)
Resistor, 1Ω, ±1%, 250mW, 200V, ±800ppm/℃, -55℃~+155℃, SMD 1206; Manufacturer: Uniroyal; Manufacturer Part Number: 1206W4F100KT5E; Supplier 1: LCSC; Supplier Part Number 1: C17928; JLCPCB Part Number: C17928; Power Rating: 250mW; Category: Resistors; Package Size: 1206; JLCPCB Basic Part: Yes; Tolerance: ±1%; Voltage Rating: 200V; Temperature Coefficient: ±800ppm/℃; Temperature Rating: -55℃~+155℃; ComponentLink1Description: Datasheet; ComponentLink1URL: https://wmsc.lcsc.com/wmsc/upload/file/pdf/v2/lcsc/2206010145_UNI-ROYAL-Uniroyal-Elec-1206W4F100KT5E_C17928.pdf; ComponentLink2Description: JLCPCB Part URL; ComponentLink2URL: https://jlcpcb.com/partdetail/C17928
pins: 1, 2
1 alternate drawing of the same symbol

## 1206W4F100LT5E
designator R?  Resistance: 100mΩ  (hidden comment: *)
Resistor, 100mΩ, ±1%, 250mW, 200V, ±800ppm/℃, -55℃~+155℃, SMD 1206; Manufacturer: Uniroyal; Manufacturer Part Number: 1206W4F100LT5E; Supplier 1: LCSC; Supplier Part Number 1: C25334; JLCPCB Part Number: C25334; Power Rating: 250mW; Category: Resistors; Package Size: 1206; JLCPCB Basic Part: Yes; Tolerance: ±1%; Voltage Rating: 200V; Temperature Coefficient: ±800ppm/℃; Temperature Rating: -55℃~+155℃; ComponentLink1Description: Datasheet; ComponentLink1URL: https://wmsc.lcsc.com/wmsc/upload/file/pdf/v2/lcsc/2205311900_UNI-ROYAL-Uniroyal-Elec-1206W4F100LT5E_C25334.pdf; ComponentLink2Description: JLCPCB Part URL; ComponentLink2URL: https://jlcpcb.com/partdetail/C25334
pins: 1, 2
1 alternate drawing of the same symbol

## 1206W4F200JT5E
designator R?  Resistance: 20Ω  (hidden comment: *)
Resistor, 20Ω, ±1%, 250mW, 200V, ±100ppm/℃, -55℃~+155℃, SMD 1206; Manufacturer: Uniroyal; Manufacturer Part Number: 1206W4F200JT5E; Supplier 1: LCSC; Supplier Part Number 1: C17955; JLCPCB Part Number: C17955; Power Rating: 250mW; Category: Resistors; Package Size: 1206; JLCPCB Basic Part: Yes; Tolerance: ±1%; Voltage Rating: 200V; Temperature Coefficient: ±100ppm/℃; Temperature Rating: -55℃~+155℃; ComponentLink1Description: Datasheet; ComponentLink1URL: https://wmsc.lcsc.com/wmsc/upload/file/pdf/v2/lcsc/2206010145_UNI-ROYAL-Uniroyal-Elec-1206W4F200JT5E_C17955.pdf; ComponentLink2Description: JLCPCB Part URL; ComponentLink2URL: https://jlcpcb.com/partdetail/C17955
pins: 1, 2
1 alternate drawing of the same symbol

## 1206W4F220JT5E
designator R?  Resistance: 22Ω  (hidden comment: *)
Resistor, 22Ω, ±1%, 250mW, 200V, ±100ppm/℃, -55℃~+155℃, SMD 1206; Manufacturer: Uniroyal; Manufacturer Part Number: 1206W4F220JT5E; Supplier 1: LCSC; Supplier Part Number 1: C17958; JLCPCB Part Number: C17958; Power Rating: 250mW; Category: Resistors; Package Size: 1206; JLCPCB Basic Part: Yes; Tolerance: ±1%; Voltage Rating: 200V; Temperature Coefficient: ±100ppm/℃; Temperature Rating: -55℃~+155℃; ComponentLink1Description: Datasheet; ComponentLink1URL: https://wmsc.lcsc.com/wmsc/upload/file/pdf/v2/lcsc/2206010145_UNI-ROYAL-Uniroyal-Elec-1206W4F220JT5E_C17958.pdf; ComponentLink2Description: JLCPCB Part URL; ComponentLink2URL: https://jlcpcb.com/partdetail/C17958
pins: 1, 2
1 alternate drawing of the same symbol

## 1206W4F1000T5E
designator R?  Resistance: 100Ω  (hidden comment: *)
Resistor, 100Ω, ±1%, 250mW, 200V, ±100ppm/℃, -55℃~+155℃, SMD 1206; Manufacturer: Uniroyal; Manufacturer Part Number: 1206W4F1000T5E; Supplier 1: LCSC; Supplier Part Number 1: C17901; JLCPCB Part Number: C17901; Power Rating: 250mW; Category: Resistors; Package Size: 1206; JLCPCB Basic Part: Yes; Tolerance: ±1%; Voltage Rating: 200V; Temperature Coefficient: ±100ppm/℃; Temperature Rating: -55℃~+155℃; ComponentLink1Description: Datasheet; ComponentLink1URL: https://wmsc.lcsc.com/wmsc/upload/file/pdf/v2/lcsc/2206010145_UNI-ROYAL-Uniroyal-Elec-1206W4F1000T5E_C17901.pdf; ComponentLink2Description: JLCPCB Part URL; ComponentLink2URL: https://jlcpcb.com/partdetail/C17901
pins: 1, 2
1 alternate drawing of the same symbol

## 1206W4F1001T5E
designator R?  Resistance: 1kΩ  (hidden comment: *)
Resistor, 1kΩ, ±1%, 250mW, 200V, -55℃~+155℃, SMD 1206; Manufacturer: Uniroyal; Manufacturer Part Number: 1206W4F1001T5E; Supplier 1: LCSC; Supplier Part Number 1: C4410; JLCPCB Part Number: C4410; Power Rating: 250mW; Category: Resistors; Package Size: 1206; JLCPCB Basic Part: Yes; Tolerance: ±1%; Voltage Rating: 200V; Temperature Rating: -55℃~+155℃; ComponentLink1Description: Datasheet; ComponentLink1URL: https://wmsc.lcsc.com/wmsc/upload/file/pdf/v2/lcsc/2206010216_UNI-ROYAL-Uniroyal-Elec-1206W4F1001T5E_C4410.pdf; ComponentLink2Description: JLCPCB Part URL; ComponentLink2URL: https://jlcpcb.com/partdetail/C4410
pins: 1, 2
1 alternate drawing of the same symbol

## 1206W4F1002T5E
designator R?  Resistance: 10kΩ  (hidden comment: *)
Resistor, 10kΩ, ±1%, 250mW, 200V, ±100ppm/℃, -55℃~+155℃, SMD 1206; Manufacturer: Uniroyal; Manufacturer Part Number: 1206W4F1002T5E; Supplier 1: LCSC; Supplier Part Number 1: C17902; JLCPCB Part Number: C17902; Power Rating: 250mW; Category: Resistors; Package Size: 1206; JLCPCB Basic Part: Yes; Tolerance: ±1%; Voltage Rating: 200V; Temperature Coefficient: ±100ppm/℃; Temperature Rating: -55℃~+155℃; ComponentLink1Description: Datasheet; ComponentLink1URL: https://wmsc.lcsc.com/wmsc/upload/file/pdf/v2/lcsc/2206010145_UNI-ROYAL-Uniroyal-Elec-1206W4F1002T5E_C17902.pdf; ComponentLink2Description: JLCPCB Part URL; ComponentLink2URL: https://jlcpcb.com/partdetail/C17902
pins: 1, 2
1 alternate drawing of the same symbol

## 1206W4F1003T5E
designator R?  Resistance: 100kΩ  (hidden comment: *)
Resistor, 100kΩ, ±1%, 250mW, 200V, ±100ppm/℃, -55℃~+155℃, SMD 1206; Manufacturer: Uniroyal; Manufacturer Part Number: 1206W4F1003T5E; Supplier 1: LCSC; Supplier Part Number 1: C17900; JLCPCB Part Number: C17900; Power Rating: 250mW; Category: Resistors; Package Size: 1206; JLCPCB Basic Part: Yes; Tolerance: ±1%; Voltage Rating: 200V; Temperature Coefficient: ±100ppm/℃; Temperature Rating: -55℃~+155℃; ComponentLink1Description: Datasheet; ComponentLink1URL: https://wmsc.lcsc.com/wmsc/upload/file/pdf/v2/lcsc/2206010145_UNI-ROYAL-Uniroyal-Elec-1206W4F1003T5E_C17900.pdf; ComponentLink2Description: JLCPCB Part URL; ComponentLink2URL: https://jlcpcb.com/partdetail/C17900
pins: 1, 2
1 alternate drawing of the same symbol

## 1206W4F1004T5E
designator R?  Resistance: 1MΩ  (hidden comment: *)
Resistor, 1MΩ, ±1%, 250mW, 200V, ±100ppm/℃, -55℃~+155℃, SMD 1206; Manufacturer: Uniroyal; Manufacturer Part Number: 1206W4F1004T5E; Supplier 1: LCSC; Supplier Part Number 1: C17927; JLCPCB Part Number: C17927; Power Rating: 250mW; Category: Resistors; Package Size: 1206; JLCPCB Basic Part: Yes; Tolerance: ±1%; Voltage Rating: 200V; Temperature Coefficient: ±100ppm/℃; Temperature Rating: -55℃~+155℃; ComponentLink1Description: Datasheet; ComponentLink1URL: https://wmsc.lcsc.com/wmsc/upload/file/pdf/v2/lcsc/2206010145_UNI-ROYAL-Uniroyal-Elec-1206W4F1004T5E_C17927.pdf; ComponentLink2Description: JLCPCB Part URL; ComponentLink2URL: https://jlcpcb.com/partdetail/C17927
pins: 1, 2
1 alternate drawing of the same symbol

## 1206W4F1200T5E
designator R?  Resistance: 120Ω  (hidden comment: *)
Resistor, 120Ω, ±1%, 250mW, 200V, ±100ppm/℃, -55℃~+155℃, SMD 1206; Manufacturer: Uniroyal; Manufacturer Part Number: 1206W4F1200T5E; Supplier 1: LCSC; Supplier Part Number 1: C17909; JLCPCB Part Number: C17909; Power Rating: 250mW; Category: Resistors; Package Size: 1206; JLCPCB Basic Part: Yes; Tolerance: ±1%; Voltage Rating: 200V; Temperature Coefficient: ±100ppm/℃; Temperature Rating: -55℃~+155℃; ComponentLink1Description: Datasheet; ComponentLink1URL: https://wmsc.lcsc.com/wmsc/upload/file/pdf/v2/lcsc/2206010145_UNI-ROYAL-Uniroyal-Elec-1206W4F1200T5E_C17909.pdf; ComponentLink2Description: JLCPCB Part URL; ComponentLink2URL: https://jlcpcb.com/partdetail/C17909
pins: 1, 2
1 alternate drawing of the same symbol

## 1206W4F2001T5E
designator R?  Resistance: 2kΩ  (hidden comment: *)
Resistor, 2kΩ, ±1%, 250mW, 200V, ±100ppm/℃, -55℃~+155℃, SMD 1206; Manufacturer: Uniroyal; Manufacturer Part Number: 1206W4F2001T5E; Supplier 1: LCSC; Supplier Part Number 1: C17944; JLCPCB Part Number: C17944; Power Rating: 250mW; Category: Resistors; Package Size: 1206; JLCPCB Basic Part: Yes; Tolerance: ±1%; Voltage Rating: 200V; Temperature Coefficient: ±100ppm/℃; Temperature Rating: -55℃~+155℃; ComponentLink1Description: Datasheet; ComponentLink1URL: https://wmsc.lcsc.com/wmsc/upload/file/pdf/v2/lcsc/2206010145_UNI-ROYAL-Uniroyal-Elec-1206W4F2001T5E_C17944.pdf; ComponentLink2Description: JLCPCB Part URL; ComponentLink2URL: https://jlcpcb.com/partdetail/C17944
pins: 1, 2
1 alternate drawing of the same symbol

## 1206W4F3000T5E
designator R?  Resistance: 300Ω  (hidden comment: *)
Resistor, 300Ω, ±1%, 250mW, 200V, ±100ppm/℃, -55℃~+155℃, SMD 1206; Manufacturer: Uniroyal; Manufacturer Part Number: 1206W4F3000T5E; Supplier 1: LCSC; Supplier Part Number 1: C17887; JLCPCB Part Number: C17887; Power Rating: 250mW; Category: Resistors; Package Size: 1206; JLCPCB Basic Part: Yes; Tolerance: ±1%; Voltage Rating: 200V; Temperature Coefficient: ±100ppm/℃; Temperature Rating: -55℃~+155℃; ComponentLink1Description: Datasheet; ComponentLink1URL: https://wmsc.lcsc.com/wmsc/upload/file/pdf/v2/lcsc/2206010200_UNI-ROYAL-Uniroyal-Elec-1206W4F3000T5E_C17887.pdf; ComponentLink2Description: JLCPCB Part URL; ComponentLink2URL: https://jlcpcb.com/partdetail/C17887
pins: 1, 2
1 alternate drawing of the same symbol

## 1206W4F4701T5E
designator R?  Resistance: 4.7kΩ  (hidden comment: *)
Resistor, 4.7kΩ, ±1%, 250mW, 200V, ±100ppm/℃, -55℃~+155℃, SMD 1206; Manufacturer: Uniroyal; Manufacturer Part Number: 1206W4F4701T5E; Supplier 1: LCSC; Supplier Part Number 1: C17936; JLCPCB Part Number: C17936; Power Rating: 250mW; Category: Resistors; Package Size: 1206; JLCPCB Basic Part: Yes; Tolerance: ±1%; Voltage Rating: 200V; Temperature Coefficient: ±100ppm/℃; Temperature Rating: -55℃~+155℃; ComponentLink1Description: Datasheet; ComponentLink1URL: https://wmsc.lcsc.com/wmsc/upload/file/pdf/v2/lcsc/2206010145_UNI-ROYAL-Uniroyal-Elec-1206W4F4701T5E_C17936.pdf; ComponentLink2Description: JLCPCB Part URL; ComponentLink2URL: https://jlcpcb.com/partdetail/C17936
pins: 1, 2
1 alternate drawing of the same symbol